# Altium footprint library altera.PCBLIB: 27 footprints (part 4 of 4)
Each footprint in its own frame and in the unit in brackets; x right, y up, seen from the top. Pads: shape width x height; smd on the part's side, far side on the other; paste and mask are expansions set on the pad; w line width, h text height; cw(c..) or ccw(c..) is an arc to the next point about the centre after c.
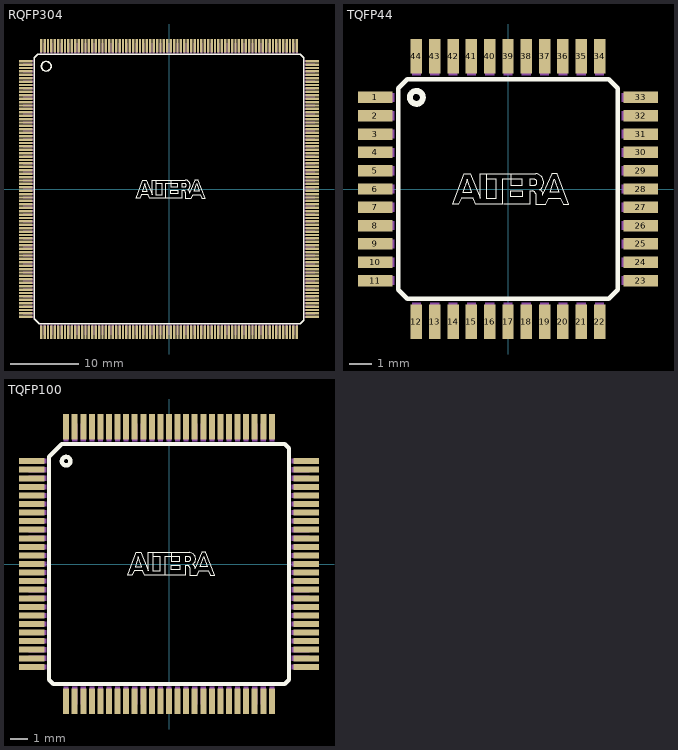
[diagram p3: the footprints below, top view; thin cyan lines are the x and y axes]

## RQFP304 [mm]
pads (304):
  rect 2x0.35 smd: 1(-21,18.75) 2(-21,18.25) 3(-21,17.75) 4(-21,17.25) 5(-21,16.75) 6(-21,16.25) 7(-21,15.75) 8(-21,15.25) 9(-21,14.75) 10(-21,14.25) 11(-21,13.75) 12(-21,13.25) 13(-21,12.75) 14(-21,12.25) 15(-21,11.75) 16(-21,11.25) 17(-21,10.75) 18(-21,10.25) 19(-21,9.75) 20(-21,9.25) 21(-21,8.75) 22(-21,8.25) 23(-21,7.75) 24(-21,7.25) 25(-21,6.75) 26(-21,6.25) 27(-21,5.75) 28(-21,5.25) 29(-21,4.75) 30(-21,4.25) 31(-21,3.75) 32(-21,3.25) 33(-21,2.75) 34(-21,2.25) 35(-21,1.75) 36(-21,1.25) 37(-21,0.75) 38(-21,0.25) 39(-21,-0.25) 40(-21,-0.75) 41(-21,-1.25) 42(-21,-1.75) 43(-21,-2.25) 44(-21,-2.75) 45(-21,-3.25) 46(-21,-3.75) 47(-21,-4.25) 48(-21,-4.75) 49(-21,-5.25) 50(-21,-5.75) 51(-21,-6.25) 52(-21,-6.75) 53(-21,-7.25) 54(-21,-7.75) 55(-21,-8.25) 56(-21,-8.75) 57(-21,-9.25) 58(-21,-9.75) 59(-21,-10.25) 60(-21,-10.75) 61(-21,-11.25) 62(-21,-11.75) 63(-21,-12.25) 64(-21,-12.75) 65(-21,-13.25) 66(-21,-13.75) 67(-21,-14.25) 68(-21,-14.75) 69(-21,-15.25) 70(-21,-15.75) 71(-21,-16.25) 72(-21,-16.75) 73(-21,-17.25) 74(-21,-17.75) 75(-21,-18.25) 76(-21,-18.75) 153(21,-18.75) 154(21,-18.25) 155(21,-17.75) 156(21,-17.25) 157(21,-16.75) 158(21,-16.25) 159(21,-15.75) 160(21,-15.25) 161(21,-14.75) 162(21,-14.25) 163(21,-13.75) 164(21,-13.25) 165(21,-12.75) 166(21,-12.25) 167(21,-11.75) 168(21,-11.25) 169(21,-10.75) 170(21,-10.25) 171(21,-9.75) 172(21,-9.25) 173(21,-8.75) 174(21,-8.25) 175(21,-7.75) 176(21,-7.25) 177(21,-6.75) 178(21,-6.25) 179(21,-5.75) 180(21,-5.25) 181(21,-4.75) 182(21,-4.25) 183(21,-3.75) 184(21,-3.25) 185(21,-2.75) 186(21,-2.25) 187(21,-1.75) 188(21,-1.25) 189(21,-0.75) 190(21,-0.25) 191(21,0.25) 192(21,0.75) 193(21,1.25) 194(21,1.75) 195(21,2.25) 196(21,2.75) 197(21,3.25) 198(21,3.75) 199(21,4.25) 200(21,4.75) 201(21,5.25) 202(21,5.75) 203(21,6.25) 204(21,6.75) 205(21,7.25) 206(21,7.75) 207(21,8.25) 208(21,8.75) 209(21,9.25) 210(21,9.75) 211(21,10.25) 212(21,10.75) 213(21,11.25) 214(21,11.75) 215(21,12.25) 216(21,12.75) 217(21,13.25) 218(21,13.75) 219(21,14.25) 220(21,14.75) 221(21,15.25) 222(21,15.75) 223(21,16.25) 224(21,16.75) 225(21,17.25) 226(21,17.75) 227(21,18.25) 228(21,18.75)
  rect 0.35x2 smd: 77(-18.75,-21) 78(-18.25,-21) 79(-17.75,-21) 80(-17.25,-21) 81(-16.75,-21) 82(-16.25,-21) 83(-15.75,-21) 84(-15.25,-21) 85(-14.75,-21) 86(-14.25,-21) 87(-13.75,-21) 88(-13.25,-21) 89(-12.75,-21) 90(-12.25,-21) 91(-11.75,-21) 92(-11.25,-21) 93(-10.75,-21) 94(-10.25,-21) 95(-9.75,-21) 96(-9.25,-21) 97(-8.75,-21) 98(-8.25,-21) 99(-7.75,-21) 100(-7.25,-21) 101(-6.75,-21) 102(-6.25,-21) 103(-5.75,-21) 104(-5.25,-21) 105(-4.75,-21) 106(-4.25,-21) 107(-3.75,-21) 108(-3.25,-21) 109(-2.75,-21) 110(-2.25,-21) 111(-1.75,-21) 112(-1.25,-21) 113(-0.75,-21) 114(-0.25,-21) 115(0.25,-21) 116(0.75,-21) 117(1.25,-21) 118(1.75,-21) 119(2.25,-21) 120(2.75,-21) 121(3.25,-21) 122(3.75,-21) 123(4.25,-21) 124(4.75,-21) 125(5.25,-21) 126(5.75,-21) 127(6.25,-21) 128(6.75,-21) 129(7.25,-21) 130(7.75,-21) 131(8.25,-21) 132(8.75,-21) 133(9.25,-21) 134(9.75,-21) 135(10.25,-21) 136(10.75,-21) 137(11.25,-21) 138(11.75,-21) 139(12.25,-21) 140(12.75,-21) 141(13.25,-21) 142(13.75,-21) 143(14.25,-21) 144(14.75,-21) 145(15.25,-21) 146(15.75,-21) 147(16.25,-21) 148(16.75,-21) 149(17.25,-21) 150(17.75,-21) 151(18.25,-21) 152(18.75,-21) 229(18.75,21) 230(18.25,21) 231(17.75,21) 232(17.25,21) 233(16.75,21) 234(16.25,21) 235(15.75,21) 236(15.25,21) 237(14.75,21) 238(14.25,21) 239(13.75,21) 240(13.25,21) 241(12.75,21) 242(12.25,21) 243(11.75,21) 244(11.25,21) 245(10.75,21) 246(10.25,21) 247(9.75,21) 248(9.25,21) 249(8.75,21) 250(8.25,21) 251(7.75,21) 252(7.25,21) 253(6.75,21) 254(6.25,21) 255(5.75,21) 256(5.25,21) 257(4.75,21) 258(4.25,21) 259(3.75,21) 260(3.25,21) 261(2.75,21) 262(2.25,21) 263(1.75,21) 264(1.25,21) 265(0.75,21) 266(0.25,21) 267(-0.25,21) 268(-0.75,21) 269(-1.25,21) 270(-1.75,21) 271(-2.25,21) 272(-2.75,21) 273(-3.25,21) 274(-3.75,21) 275(-4.25,21) 276(-4.75,21) 277(-5.25,21) 278(-5.75,21) 279(-6.25,21) 280(-6.75,21) 281(-7.25,21) 282(-7.75,21) 283(-8.25,21) 284(-8.75,21) 285(-9.25,21) 286(-9.75,21) 287(-10.25,21) 288(-10.75,21) 289(-11.25,21) 290(-11.75,21) 291(-12.25,21) 292(-12.75,21) 293(-13.25,21) 294(-13.75,21) 295(-14.25,21) 296(-14.75,21) 297(-15.25,21) 298(-15.75,21) 299(-16.25,21) 300(-16.75,21) 301(-17.25,21) 302(-17.75,21) 303(-18.25,21) 304(-18.75,21)
Top Overlay:
  circle w0.203: c-18,18 r0.707
  lines w0.152: -0.389,-1.357 1.897,-1.357 1.897,-0.214 2.151,-0.214 cw(c2.151,-0.468) 2.405,-0.468 2.405,-1.357 3.294,-1.357 3.548,-0.849 4.564,-0.849 4.818,-1.357 5.326,-1.357 4.31,1.31 3.802,1.31 3.04,-0.468 ; 3.04,-0.595 ccw(c2.596,-0.5) 2.786,-0.087 ccw(c2.342,0.542) 2.405,1.31 0.246,1.31 ; -1.913,0.802 -1.913,1.31 ; -1.913,0.802 -1.913,-0.849 -1.024,-0.849 -1.024,0.802 -1.913,0.802 ; -1.913,1.31 -2.421,1.31 -2.421,-0.849 -3.31,1.31 -3.818,1.31 -4.834,-1.357 -4.326,-1.357 -4.072,-0.849 -3.056,-0.849 -2.802,-1.357 -0.516,-1.357 -0.516,0.802 0.246,0.802 ; -1.913,1.31 0.246,1.31 ; 0.246,0.802 0.246,1.31 ; 0.246,0.802 0.246,0.294 1.262,0.294 1.262,0.802 0.246,0.802 ; -3.945,-0.341 -3.564,0.802 -3.183,-0.341 -3.945,-0.341 ; 0.246,-0.722 1.262,-0.722 1.262,-0.214 0.246,-0.214 0.246,-0.722 ; 1.897,0.294 1.897,0.802 2.278,0.802 cw(c2.278,0.548) 2.278,0.294 1.897,0.294 ; 3.675,-0.341 4.437,-0.341 4.056,0.802 3.675,-0.341
  lines w0.203: -19.75,-19 -19,-19.75 19.25,-19.75 19.75,-19.25 19.75,19.25 19.25,19.75 -19.25,19.75 -19.75,19.25 -19.75,-19
Mechanical 16:
  drawing of 304 lines, arcs and shapes, not listed
  text "RQFP304" at -2.81,-3.27 h1.26

## TQFP44 [mil]
pads (44):
  rect 59.06x19.69 smd: 1(-228.35,157.48) 2(-228.35,125.98) 3(-228.35,94.49) 4(-228.35,62.99) 5(-228.35,31.5) 6(-228.35,0) 7(-228.35,-31.5) 8(-228.35,-62.99) 9(-228.35,-94.49) 10(-228.35,-125.98) 11(-228.35,-157.48) 23(228.35,-157.48) 24(228.35,-125.98) 25(228.35,-94.49) 26(228.35,-62.99) 27(228.35,-31.5) 28(228.35,0) 29(228.35,31.5) 30(228.35,62.99) 31(228.35,94.49) 32(228.35,125.98) 33(228.35,157.48)
  rect 19.69x59.06 smd: 12(-157.48,-228.35) 13(-125.98,-228.35) 14(-94.49,-228.35) 15(-62.99,-228.35) 16(-31.5,-228.35) 17(0,-228.35) 18(31.5,-228.35) 19(62.99,-228.35) 20(94.49,-228.35) 21(125.98,-228.35) 22(157.48,-228.35) 34(157.48,228.35) 35(125.98,228.35) 36(94.49,228.35) 37(62.99,228.35) 38(31.5,228.35) 39(0,228.35) 40(-31.5,228.35) 41(-62.99,228.35) 42(-94.49,228.35) 43(-125.98,228.35) 44(-157.48,228.35)
Top Overlay:
  circle w10: c-157.48,157.48 r11.13
  lines w2: -7.68,-25.94 37.32,-25.94 37.32,-3.43 42.32,-3.43 cw(c42.32,-8.43) 47.32,-8.43 47.32,-25.94 64.84,-25.94 69.84,-15.94 89.84,-15.94 94.84,-25.94 104.84,-25.94 84.84,26.57 74.84,26.57 59.84,-8.43 ; 54.83,-0.94 ccw(c46.06,11.45) 47.32,26.57 4.84,26.57 ; 54.84,-0.92 cw(c51.08,-9.04) 59.83,-10.93 ; -37.68,16.57 -37.68,26.57 ; -37.68,16.57 -37.68,-15.94 -20.16,-15.94 -20.16,16.57 -37.68,16.57 ; -37.68,26.57 -47.68,26.57 -47.68,-15.94 -65.16,26.57 -75.16,26.57 -95.16,-25.94 -85.16,-25.94 -80.16,-15.94 -60.16,-15.94 -55.16,-25.94 -10.16,-25.94 -10.16,16.57 4.84,16.57 ; -37.68,26.57 4.84,26.57 ; 4.84,16.57 4.84,26.57 ; 4.84,16.57 4.84,6.57 24.84,6.57 24.84,16.57 4.84,16.57 ; -77.68,-5.94 -70.16,16.57 -62.68,-5.94 -77.68,-5.94 ; 4.84,-13.43 24.84,-13.43 24.84,-3.43 4.84,-3.43 4.84,-13.43 ; 37.32,6.57 37.32,16.57 44.84,16.57 cw(c44.84,11.57) 44.84,6.57 37.32,6.57 ; 72.32,-5.94 87.32,-5.94 79.84,16.57 72.32,-5.94
  lines w8: -188.98,-173.23 -173.23,-188.98 173.23,-188.98 188.98,-173.23 188.98,173.23 173.23,188.98 -173.23,188.98 -188.98,173.23 -188.98,-173.23
Mechanical 16:
  rectangle: -240.16,149.61 -194.88,165.35
  rectangle: -240.16,118.11 -194.88,133.86
  rectangle: -240.16,86.61 -194.88,102.36
  rectangle: -240.16,55.12 -194.88,70.87
  rectangle: -240.16,23.62 -194.88,39.37
  rectangle: -240.16,-7.87 -194.88,7.87
  rectangle: -240.16,-39.37 -194.88,-23.62
  rectangle: -240.16,-70.87 -194.88,-55.12
  rectangle: -240.16,-102.36 -194.88,-86.61
  rectangle: -240.16,-133.86 -194.88,-118.11
  rectangle: -240.16,-165.35 -194.88,-149.61
  rectangle: -165.35,-240.16 -149.61,-194.88
  rectangle: -133.86,-240.16 -118.11,-194.88
  rectangle: -102.36,-240.16 -86.61,-194.88
  rectangle: -70.87,-240.16 -55.12,-194.88
  rectangle: -39.37,-240.16 -23.62,-194.88
  rectangle: -7.87,-240.16 7.87,-194.88
  rectangle: 23.62,-240.16 39.37,-194.88
  rectangle: 55.12,-240.16 70.87,-194.88
  rectangle: 86.61,-240.16 102.36,-194.88
  rectangle: 118.11,-240.16 133.86,-194.88
  rectangle: 149.61,-240.16 165.35,-194.88
  rectangle: 194.88,-165.35 240.16,-149.61
  rectangle: 194.88,-133.86 240.16,-118.11
  rectangle: 194.88,-102.36 240.16,-86.61
  rectangle: 194.88,-70.87 240.16,-55.12
  rectangle: 194.88,-39.37 240.16,-23.62
  rectangle: 194.88,-7.87 240.16,7.87
  rectangle: 194.88,23.62 240.16,39.37
  rectangle: 194.88,55.12 240.16,70.87
  rectangle: 194.88,86.61 240.16,102.36
  rectangle: 194.88,118.11 240.16,133.86
  rectangle: 194.88,149.61 240.16,165.35
  rectangle: 149.61,194.88 165.35,240.16
  rectangle: 118.11,194.88 133.86,240.16
  rectangle: 86.61,194.88 102.36,240.16
  rectangle: 55.12,194.88 70.87,240.16
  rectangle: 23.62,194.88 39.37,240.16
  rectangle: -7.87,194.88 7.87,240.16
  rectangle: -39.37,194.88 -23.62,240.16
  rectangle: -70.87,194.88 -55.12,240.16
  rectangle: -102.36,194.88 -86.61,240.16
  rectangle: -133.86,194.88 -118.11,240.16
  rectangle: -165.35,194.88 -149.61,240.16
  text "TQFP-44" at -109.65,-156.89 h37.2

## TQFP100 [mm]
pads (100):
  rect 1.5x0.35 smd: 1(-8,6) 2(-8,5.5) 3(-8,5) 4(-8,4.5) 5(-8,4) 6(-8,3.5) 7(-8,3) 8(-8,2.5) 9(-8,2) 10(-8,1.5) 11(-8,1) 12(-8,0.5) 13(-8,0) 14(-8,-0.5) 15(-8,-1) 16(-8,-1.5) 17(-8,-2) 18(-8,-2.5) 19(-8,-3) 20(-8,-3.5) 21(-8,-4) 22(-8,-4.5) 23(-8,-5) 24(-8,-5.5) 25(-8,-6) 51(8,-6) 52(8,-5.5) 53(8,-5) 54(8,-4.5) 55(8,-4) 56(8,-3.5) 57(8,-3) 58(8,-2.5) 59(8,-2) 60(8,-1.5) 61(8,-1) 62(8,-0.5) 63(8,0) 64(8,0.5) 65(8,1) 66(8,1.5) 67(8,2) 68(8,2.5) 69(8,3) 70(8,3.5) 71(8,4) 72(8,4.5) 73(8,5) 74(8,5.5) 75(8,6)
  rect 0.35x1.5 smd: 26(-6,-8) 27(-5.5,-8) 28(-5,-8) 29(-4.5,-8) 30(-4,-8) 31(-3.5,-8) 32(-3,-8) 33(-2.5,-8) 34(-2,-8) 35(-1.5,-8) 36(-1,-8) 37(-0.5,-8) 38(0,-8) 39(0.5,-8) 40(1,-8) 41(1.5,-8) 42(2,-8) 43(2.5,-8) 44(3,-8) 45(3.5,-8) 46(4,-8) 47(4.5,-8) 48(5,-8) 49(5.5,-8) 50(6,-8) 76(6,8) 77(5.5,8) 78(5,8) 79(4.5,8) 80(4,8) 81(3.5,8) 82(3,8) 83(2.5,8) 84(2,8) 85(1.5,8) 86(1,8) 87(0.5,8) 88(0,8) 89(-0.5,8) 90(-1,8) 91(-1.5,8) 92(-2,8) 93(-2.5,8) 94(-3,8) 95(-3.5,8) 96(-4,8) 97(-4.5,8) 98(-5,8) 99(-5.5,8) 100(-6,8)
Top Overlay:
  circle w0.254: c-6,6 r0.25
  lines w0.051: -0.195,-0.659 0.948,-0.659 0.948,-0.087 1.075,-0.087 cw(c1.075,-0.214) 1.202,-0.214 1.202,-0.659 1.647,-0.659 1.774,-0.405 2.282,-0.405 2.409,-0.659 2.663,-0.659 2.155,0.675 1.901,0.675 1.52,-0.214 ; 1.393,-0.024 ccw(c1.17,0.291) 1.202,0.675 0.123,0.675 ; 1.393,-0.023 cw(c1.297,-0.23) 1.52,-0.278 ; -0.957,0.421 -0.957,0.675 ; -0.957,0.421 -0.957,-0.405 -0.512,-0.405 -0.512,0.421 -0.957,0.421 ; -0.957,0.675 -1.211,0.675 -1.211,-0.405 -1.655,0.675 -1.909,0.675 -2.417,-0.659 -2.163,-0.659 -2.036,-0.405 -1.528,-0.405 -1.401,-0.659 -0.258,-0.659 -0.258,0.421 0.123,0.421 ; -0.957,0.675 0.123,0.675 ; 0.123,0.421 0.123,0.675 ; 0.123,0.421 0.123,0.167 0.631,0.167 0.631,0.421 0.123,0.421 ; -1.973,-0.151 -1.782,0.421 -1.592,-0.151 -1.973,-0.151 ; 0.123,-0.341 0.631,-0.341 0.631,-0.087 0.123,-0.087 0.123,-0.341 ; 0.948,0.167 0.948,0.421 1.139,0.421 cw(c1.139,0.294) 1.139,0.167 0.948,0.167 ; 1.837,-0.151 2.218,-0.151 2.028,0.421 1.837,-0.151
  lines w0.254: -7,-6.75 -6.75,-7 6.75,-7 7,-6.75 7,6.75 6.75,7 -6.25,7 -7,6.25 -7,-6.75
Mechanical 16:
  rectangle: -8.2,5.85 -7.15,6.15
  rectangle: -8.2,5.35 -7.15,5.65
  rectangle: -8.2,4.85 -7.15,5.15
  rectangle: -8.2,4.35 -7.15,4.65
  rectangle: -8.2,3.85 -7.15,4.15
  rectangle: -8.2,3.35 -7.15,3.65
  rectangle: -8.2,2.85 -7.15,3.15
  rectangle: -8.2,2.35 -7.15,2.65
  rectangle: -8.2,1.85 -7.15,2.15
  rectangle: -8.2,1.35 -7.15,1.65
  rectangle: -8.2,0.85 -7.15,1.15
  rectangle: -8.2,0.35 -7.15,0.65
  rectangle: -8.2,-0.15 -7.15,0.15
  rectangle: -8.2,-0.65 -7.15,-0.35
  rectangle: -8.2,-1.15 -7.15,-0.85
  rectangle: -8.2,-1.65 -7.15,-1.35
  rectangle: -8.2,-2.15 -7.15,-1.85
  rectangle: -8.2,-2.65 -7.15,-2.35
  rectangle: -8.2,-3.15 -7.15,-2.85
  rectangle: -8.2,-3.65 -7.15,-3.35
  rectangle: -8.2,-4.15 -7.15,-3.85
  rectangle: -8.2,-4.65 -7.15,-4.35
  rectangle: -8.2,-5.15 -7.15,-4.85
  rectangle: -8.2,-5.65 -7.15,-5.35
  rectangle: -8.2,-6.15 -7.15,-5.85
  rectangle: -6.15,-8.2 -5.85,-7.15
  rectangle: -5.65,-8.2 -5.35,-7.15
  rectangle: -5.15,-8.2 -4.85,-7.15
  rectangle: -4.65,-8.2 -4.35,-7.15
  rectangle: -4.15,-8.2 -3.85,-7.15
  rectangle: -3.65,-8.2 -3.35,-7.15
  rectangle: -3.15,-8.2 -2.85,-7.15
  rectangle: -2.65,-8.2 -2.35,-7.15
  rectangle: -2.15,-8.2 -1.85,-7.15
  rectangle: -1.65,-8.2 -1.35,-7.15
  rectangle: -1.15,-8.2 -0.85,-7.15
  rectangle: -0.65,-8.2 -0.35,-7.15
  rectangle: -0.15,-8.2 0.15,-7.15
  rectangle: 0.35,-8.2 0.65,-7.15
  rectangle: 0.85,-8.2 1.15,-7.15
  rectangle: 1.35,-8.2 1.65,-7.15
  rectangle: 1.85,-8.2 2.15,-7.15
  rectangle: 2.35,-8.2 2.65,-7.15
  rectangle: 2.85,-8.2 3.15,-7.15
  rectangle: 3.35,-8.2 3.65,-7.15
  rectangle: 3.85,-8.2 4.15,-7.15
  rectangle: 4.35,-8.2 4.65,-7.15
  rectangle: 4.85,-8.2 5.15,-7.15
  rectangle: 5.35,-8.2 5.65,-7.15
  rectangle: 5.85,-8.2 6.15,-7.15
  rectangle: 7.15,-6.15 8.2,-5.85
  rectangle: 7.15,-5.65 8.2,-5.35
  rectangle: 7.15,-5.15 8.2,-4.85
  rectangle: 7.15,-4.65 8.2,-4.35
  rectangle: 7.15,-4.15 8.2,-3.85
  rectangle: 7.15,-3.65 8.2,-3.35
  rectangle: 7.15,-3.15 8.2,-2.85
  rectangle: 7.15,-2.65 8.2,-2.35
  rectangle: 7.15,-2.15 8.2,-1.85
  rectangle: 7.15,-1.65 8.2,-1.35
  rectangle: 7.15,-1.15 8.2,-0.85
  rectangle: 7.15,-0.65 8.2,-0.35
  rectangle: 7.15,-0.15 8.2,0.15
  rectangle: 7.15,0.35 8.2,0.65
  rectangle: 7.15,0.85 8.2,1.15
  rectangle: 7.15,1.35 8.2,1.65
  rectangle: 7.15,1.85 8.2,2.15
  rectangle: 7.15,2.35 8.2,2.65
  rectangle: 7.15,2.85 8.2,3.15
  rectangle: 7.15,3.35 8.2,3.65
  rectangle: 7.15,3.85 8.2,4.15
  rectangle: 7.15,4.35 8.2,4.65
  rectangle: 7.15,4.85 8.2,5.15
  rectangle: 7.15,5.35 8.2,5.65
  rectangle: 7.15,5.85 8.2,6.15
  rectangle: 5.85,7.15 6.15,8.2
  rectangle: 5.35,7.15 5.65,8.2
  rectangle: 4.85,7.15 5.15,8.2
  rectangle: 4.35,7.15 4.65,8.2
  rectangle: 3.85,7.15 4.15,8.2
  rectangle: 3.35,7.15 3.65,8.2
  rectangle: 2.85,7.15 3.15,8.2
  rectangle: 2.35,7.15 2.65,8.2
  rectangle: 1.85,7.15 2.15,8.2
  rectangle: 1.35,7.15 1.65,8.2
  rectangle: 0.85,7.15 1.15,8.2
  rectangle: 0.35,7.15 0.65,8.2
  rectangle: -0.15,7.15 0.15,8.2
  rectangle: -0.65,7.15 -0.35,8.2
  rectangle: -1.15,7.15 -0.85,8.2
  rectangle: -1.65,7.15 -1.35,8.2
  rectangle: -2.15,7.15 -1.85,8.2
  rectangle: -2.65,7.15 -2.35,8.2
  rectangle: -3.15,7.15 -2.85,8.2
  rectangle: -3.65,7.15 -3.35,8.2
  rectangle: -4.15,7.15 -3.85,8.2
  rectangle: -4.65,7.15 -4.35,8.2
  rectangle: -5.15,7.15 -4.85,8.2
  rectangle: -5.65,7.15 -5.35,8.2
  rectangle: -6.15,7.15 -5.85,8.2
  text "TQFP 100" at -2.81,-2.48 h1.26